# Altium schematic symbol library chinook_lib_symbol_rotor.SchLib: 34 symbols
Pins are listed as number, name and electrical type; pins without a type are passive.

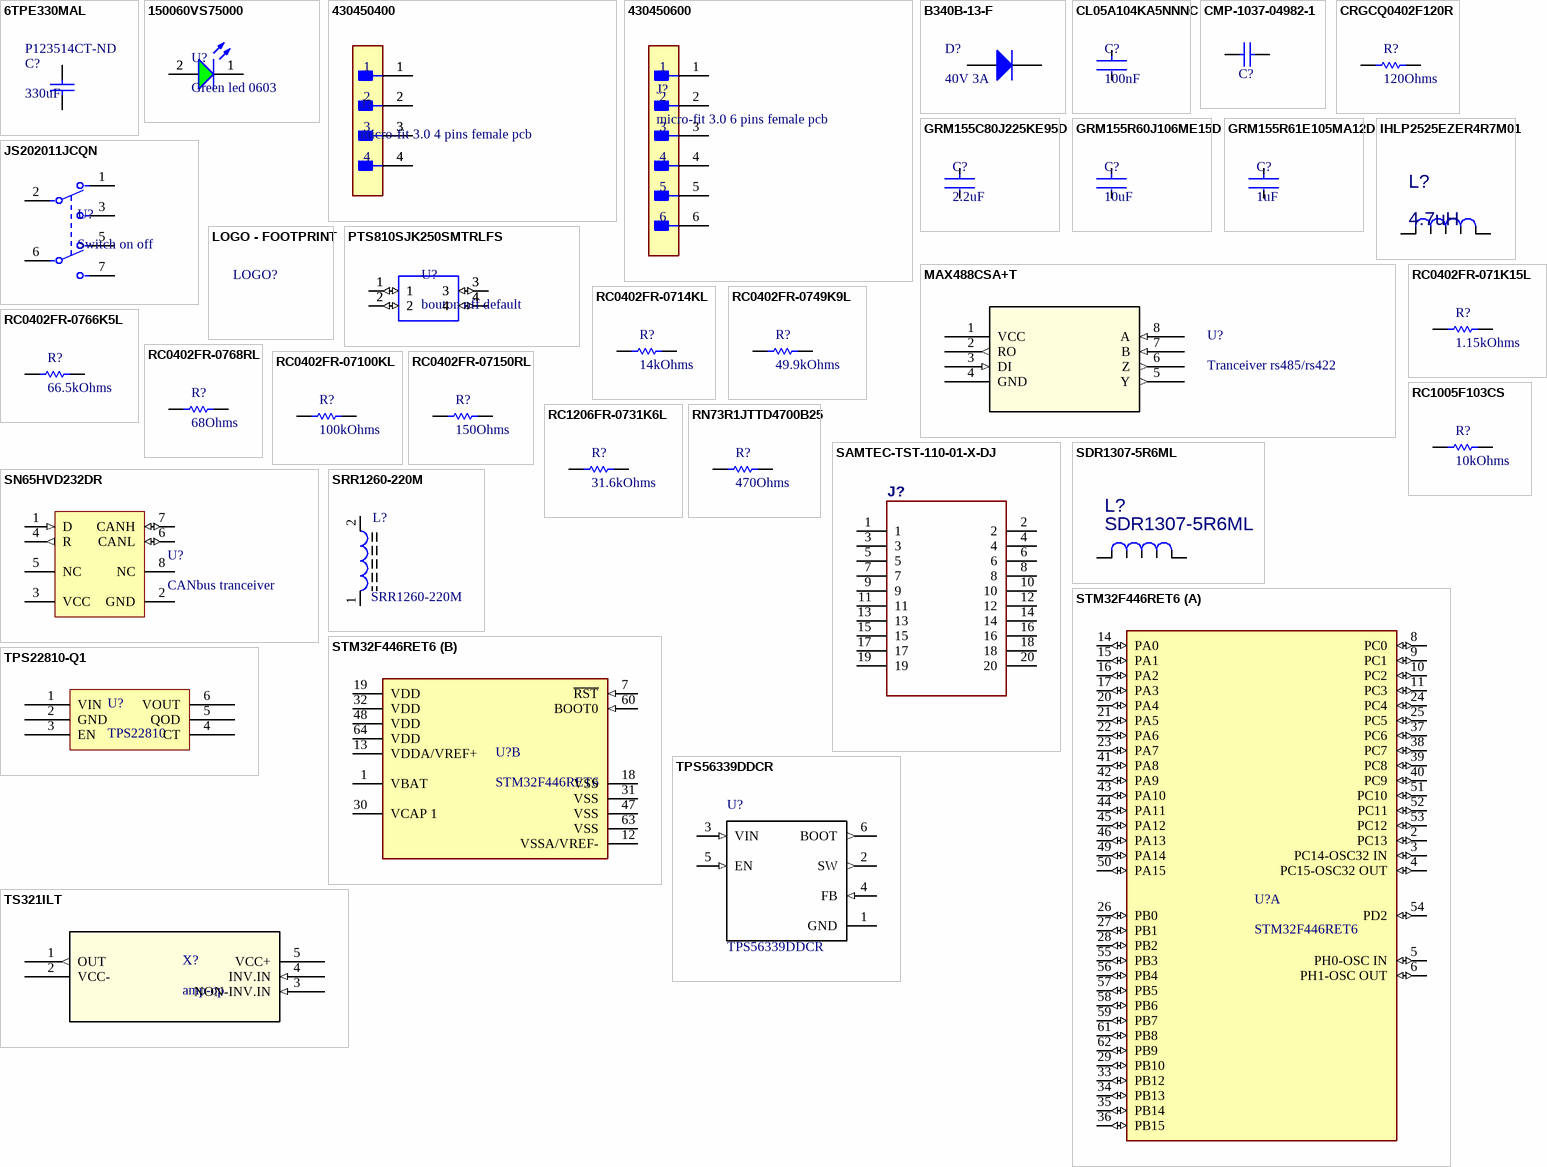
[diagram p0: symbols 6TPE330MAL to TS321ILT]

## 6TPE330MAL
designator C?, comment 330uF  Supplier Part Number 1: P123514CT-ND
Cap Tant Polymer 330uF 6.3VDC D3L CASE 20% (7.3 X 4.3 X 2.8mm) SMD 7343 0.025 Ohm 105C Embossed T/R; Manufacturer 1: Panasonic; Manufacturer Part Number 1: 6TPE330MAL; Voltage Rating: 6.3V; ESR (Equivalent Series Resistance): 25mR; Ripple Current: 2.4A; Leakage Current: 207.9uA; Polarity: Polar; Dissipation Factor: 10%; Supplier 1: Digi-Key; Stock 1: 2448; Pricing 1: 1=1.54000, 10=1.21400, 100=0.91080, 500=0.68816, 1000=0.60720 (USD); RoHS: Yes; Mount: Surface Mount; Case/Package: 2917; Case Code (Metric): 7343; Case Code (Imperial): 2917; Min Operating Temperature: -55°C; Max Operating Temperature: 105°C; Package Quantity: 2500; Packaging: Tape and Reel; Capacitance: 330uF; Tolerance: 20%; Voltage Rating (DC): 6.3V; Termination: SMD/SMT; Voltage: 6.3V; Features: General Purpose; Length: 7.3mm; Height: 2.8mm; Width: 0.169inch; Height - Seated (Max): 0.118inch; Depth: 4.3mm; Radiation Hardening: No; REACH SVHC: No SVHC; Lead Free: Lead Free; ComponentLink1URL: https://datasheet.ciiva.com/22745/1734363-22745356.pdf?src-supplier=Element14; ComponentLink1Description: https://datasheet.ciiva.com/22745/1734363-22745356.pdf?src-supplier=Element14; ComponentLink2URL: https://datasheet.ciiva.com/25785/1734363-25785996.pdf?src-supplier=Farnell; ComponentLink2Description: https://datasheet.ciiva.com/25785/1734363-25785996.pdf?src-supplier=Farnell
footprint CAP_TPE_D3L (Molded Capacitor, 2-Leads, Body 7.30x4.30mm, IPC Medium Density)
pins: 1, 2

## 150060VS75000
designator U?, comment Green led 0603
WURTH ELEKTRONIK - 150060VS75000 - LED, Green, SMD, 0603, 30 mA, 2 V, 570 nm; Manufacturer: Wurth Electronics; Lens Color: Colorless; Luminous Intensity: 40mcd; Viewing Angle: 140°; Forward Voltage: 2V; Lens Style: Rectangular,Flat; Forward Current: 20mA; Dominant Wavelength: 570nm; Lens Transparency: Clear; Power Rating: 72mW; Reverse Voltage (DC): 5V; Lens Size: 0.7mm; Supplier: Digikey; Supplier Part Number: 732-4980-1-ND; Manufacturer Part Number: 150060VS75000; RoHS: Yes; Category: LEDs; Stock: 75022; Pricing: 1=0.15, 50=0.142, 100=0.122, 500=0.105, 1000=0.10125 (USD); Mounting Technology: Surface Mount; Case/Package: 0603; Pins: 2; Color: Green; Case Code (Metric): 1608; Case Code (Imperial): 0603; Weight: 0.000882oz; Min Operating Temperature: -40°C; Max Operating Temperature: 85°C; Package Quantity: 4000; Packaging: Cut Tape; Test Current: 20mA; Illumination Color: Green; Series: WL-SMCW; Max Reverse Voltage (DC): 5V; Power Dissipation: 72mW; Reverse Voltage: 5V; Length: 1.6mm; Width: 0.8mm; Height: 0.8mm; RoHS Compliant: Yes; Reach SVHC Compliant: 4187SVHC; ComponentLink1URL: https://datasheet.ciiva.com/29562/150060vs75000-29562919.pdf?src-supplier=Digikey; ComponentLink1Description: https://datasheet.ciiva.com/29562/150060vs75000-29562919.pdf?src-supplier=Digikey
footprint WL-SMCW_0603_150060xx75000 (SMD Mono-color Chip LED, body 1.6x0.8mm)
pins: 1 K, 1 K, 2 A, 2 A

## 430450400
designator J?, comment micro-fit 3.0 4 pins female pcb
MOLEX 43045-0400 Header, Dual Row, 90°, 4p, Tin Plating Snap-in Peg PCB Lock, GW Compatible; Plating: 154ConductorMaterial; Number of Contacts: 4; Contact Resistance: 10mR; Max Voltage Rating (AC): 250V; Current Rating: 5A; Voltage Rating: 600V; Gender: Male; Max Voltage Rating (DC): 250.25kV; Pitch: 3mm; Row Spacing: 0.118inch; Approvals: UL,CSA,TUV; Glow Wire Compliant: 15Compliance; Supplier: Digikey; Supplier Part Number: WM1814-ND; Manufacturer: Molex; Manufacturer Part Number: 43045-0400; RoHS: Yes; Category: Headers and Wire Housings; Stock: 4691; Pricing: 1=1.51, 10=1.289, 80=1.065, 2232=0.8128, 6696=0.74553, 11160=0.72872 (USD); Mounting Technology: Through Hole; Case/Package: 101Case; Contact Plating: Tin; Contact Material: Brass,Tin; Color: Black; Housing Color: Black; Housing Material: Thermoplastic; Material: Polyester; Min Operating Temperature: -40°C; Max Operating Temperature: 105°C; Number of Rows: 2; Termination: Solder; Packaging: Tray; Fastening Type: Ramp; Number of Positions: 4; Orientation: Right Angle; Contact Gender: Male; Series: Micro-Fit 3.0™ 43045; Contact Type: Male Pin; Number of Circuits: 4; Number of Poles: 4; Voltage Rating (AC): 250V; Working Voltage: 250V; Voltage Rating (DC): 250V; Diameter: 3mm; Length: 10.15mm; Width: 9.9mm; Lead Pitch: 3mm; Depth: 12.2mm; Radiation Hardening: No; RoHS Compliant: Yes; Reach SVHC Compliant: Unknown; Flammability Rating: 5813Flammability; Halogen Free: 5696HalogenFree; Lead Free: 5697LeadFree; ComponentLink1URL: https://datasheet.ciiva.com/11746/0900766b80027348-11746988.pdf?src-supplier=Rs; ComponentLink1Description: https://datasheet.ciiva.com/11746/0900766b80027348-11746988.pdf?src-supplier=Rs
footprint FP-43045-0400-MFG
pins: 1, 1, 2, 2, 3, 3, 4, 4

## 430450600
designator J?, comment micro-fit 3.0 6 pins female pcb
Connector Wire to Board Header 6 Position 3mm Solder Right Angle Thru-Hole Tray; Manufacturer: Molex; Manufacturer Part Number: 43045-0600; Plating: 154ConductorMaterial; Contact Resistance: 10mR; Voltage Rating: 250V; Current Rating: 5A; Max Voltage Rating (DC): 250.25kV; Gender: Male; Number of Positions: 6; Insulation Resistance: 1GR; Approvals: UL,CSA,TUV; Glow Wire Compliant: 15Compliance; Supplier: Digikey; Supplier Part Number: WM1815-ND; RoHS: Yes; Category: Headers and Wire Housings; Stock: 3053; Pricing: 1=2.2, 10=1.875, 80=1.54863, 1728=1.18185, 5184=1.08404 (USD); Mounting Technology: Through Hole; Case/Package: SMC; Contact Material: Brass,Tin; Contact Plating: Tin; Housing Color: Black; Housing Material: Thermoplastic; Color: Black; Material: 4301ConductorMaterial; Min Operating Temperature: -40°C; Max Operating Temperature: 105°C; Number of Rows: 2; Packaging: Tray; Termination: Solder; Orientation: Right Angle; Package Quantity: 1728; Max Current Rating: 5A; Number of Circuits: 6; Number of Contacts: 6; Series: 43045; Voltage Rating (DC): 250V; Diameter: 3mm; Length: 13.15mm; Height: 8.77mm; Pitch: 3mm; Depth: 12.2mm; Row Spacing: 3mm; Radiation Hardening: No; Flammability Rating: UL94 V-0; RoHS Compliant: Yes; Reach SVHC Compliant: Unknown; Halogen Free: 5696HalogenFree; Lead Free: 5697LeadFree; Parameter 1: *
footprint FP-0430450600-MFG
pins: 1, 2, 3, 4, 5, 6

## B340B-13-F
designator D?, comment 40V 3A
DIODE SCHOTTKY 40V 3A SMB; Manufacturer 1: Diodes; Manufacturer Part Number 1: B340B-13-F; Element Configuration: Single; Peak Reverse Current: 500uA; Forward Voltage: 500mV; Peak Non-Repetitive Surge Current: 100A; Polarity: Standard; Capacitance: 250pF; Supplier 1: Digi-Key; Stock 1: 44365; Pricing 1: 1=0.48000, 10=0.39100, 100=0.26620, 500=0.19968, 1000=0.14976 (USD); RoHS: Yes; Mount: Surface Mount; Case/Package: SMB; Number of Pins: 2; Weight: 0.00328oz; Min Operating Temperature: -55°C; Max Operating Temperature: 150°C; Forward Current: 3A; Max Repetitive Reverse Voltage (Vrrm): 40V; Packaging: Tape and Reel; Max Forward Surge Current (Ifsm): 100A; Package Quantity: 3000; Average Rectified Current: 3A; Termination: SMD/SMT; Voltage Rating (DC): 40V; Current Rating: 3A; Output Current: 3A; Max Reverse Voltage (DC): 40V; Length: 4.57mm; Height: 2.5mm; Width: 3.94mm; Radiation Hardening: No; REACH SVHC: No SVHC; Lead Free: Lead Free; ComponentLink1URL: https://datasheet.ciiva.com/26949/getdatasheetpartid-110980-26949353.pdf?src-supplier=Verical; ComponentLink1Description: https://datasheet.ciiva.com/26949/getdatasheetpartid-110980-26949353.pdf?src-supplier=Verical; ComponentLink2URL: https://datasheet.ciiva.com/25946/ds30924-25946951.pdf?src-supplier=Avnet+Europe; ComponentLink2Description: https://datasheet.ciiva.com/25946/ds30924-25946951.pdf?src-supplier=Avnet+Europe; ComponentLink3URL: https://datasheet.ciiva.com/16203/ds30924-16203765.pdf?src-supplier=Future+Electronics; ComponentLink3Description: https://datasheet.ciiva.com/16203/ds30924-16203765.pdf?src-supplier=Future+Electronics; Supplier Part Number 1: B340B-FDICT-ND
footprint DIODE_SCHOTTKY_SMB (Molded Capacitor, 2-Leads, Body 4.31x3.62mm, IPC Medium Density)
pins: 1 A, 2 K

## CL05A104KA5NNNC
designator C?, comment 100nF
Multilayer Ceramic Capacitor, 0.1 uF, 25 V, ± 10%, X5R, 0402 [1005 Metric]; Manufacturer: Samsung; Manufacturer Part Number: CL05A104KA5NNNC; Material: 4241ConductorMaterial; Voltage Rating: 25V; Supplier: Digikey; Supplier Part Number: 1276-1043-1-ND; RoHS: Yes; Category: Ceramic Capacitors; Stock: 11930039; Pricing: 1=0.1, 10=0.01, 50=0.0054, 100=0.0042, 500=0.00318, 1000=0.0025, 2500=0.00227, 5000=0.00209 (USD); Mounting Technology: Surface Mount; Case/Package: 0402; Case Code (Metric): 1005; Case Code (Imperial): 0402; Min Operating Temperature: -55°C; Max Operating Temperature: 85°C; Value: 100nF; Packaging: Tape and Reel; Tolerance: 10%; Dielectric: X5R; Voltage: 25V; Series: CL; Construction: Flat; Package Quantity: 1; Voltage Rating (DC): 25V; Length: 1mm; Width: 0.02inch; Height: 0.5mm; Depth: 0.5mm; Thickness: 0.022inch; Radiation Hardening: No; RoHS Compliant: Yes; Lead Free: Lead Free; ComponentLink1URL: https://datasheet.ciiva.com/25802/cl05a104ka5nnnc-25802704.pdf?src-supplier=Digikey; ComponentLink1Description: https://datasheet.ciiva.com/25802/cl05a104ka5nnnc-25802704.pdf?src-supplier=Digikey; ComponentLink2URL: https://datasheet.ciiva.com/16437/cl05a104ka5nnnc-16437369.pdf?src-supplier=Future+Electronics; ComponentLink2Description: https://datasheet.ciiva.com/16437/cl05a104ka5nnnc-16437369.pdf?src-supplier=Future+Electronics; ComponentLink3URL: https://datasheet.ciiva.com/26838/getdatasheetpartid-357412-26838142.pdf?src-supplier=Verical; ComponentLink3Description: https://datasheet.ciiva.com/26838/getdatasheetpartid-357412-26838142.pdf?src-supplier=Verical; ComponentLink4URL: https://datasheet.ciiva.com/26309/mlcc-catalogdownload2013-eng-26309014.pdf?src-supplier=Distrelec; ComponentLink4Description: https://datasheet.ciiva.com/26309/mlcc-catalogdownload2013-eng-26309014.pdf?src-supplier=Distrelec
footprint FP-GRM155-0_15-MFG
pins: 1, 2

## CMP-1037-04982-1
designator C?, comment CAP 10uF 50V 1206(3216)  (value not drawn)
CAP 10uF 50V ±10% 1206 (3216 Metric) Thickness 1.9mm SMD; Manufacturer: TDK; Manufacturer Part Number: C3216X5R1H106K; Case-EIA: 1206; Tolerance: Â±10%; Case-Metric: 3216; Technology: SMT; Max Thickness: 1.9 mm; Value: 10uF; Rated Voltage: 50 V
footprint CS-1206
pins: 1, 2
1 alternate drawing of the same symbol

## CRGCQ0402F120R
designator R?, comment 120Ohms
RES 120 OHM 1% 1/16W 0402; Supplier 1: Avnet; Supplier Part Number 1: 1-2176337-4
footprint FP-GRM155-0_15-MFG
pins: 1, 2

## GRM155C80J225KE95D
designator C?, comment 2.2uF
Cap Ceramic 2.2uF 6.3V X6S 10% Pad SMD 0402 105°C T/R; Manufacturer: Murata; Manufacturer Part Number: GRM155C80J225KE95D; Supplier: Digikey; Supplier Part Number: 490-10012-1-ND; RoHS: Yes; Category: Ceramic Capacitors; Stock: 6441444; Pricing: 1=0.1, 10=0.054, 50=0.031, 100=0.0241, 500=0.01814, 1000=0.01425, 2500=0.01296, 5000=0.01192 (USD); Mounting Technology: Surface Mount; Case/Package: 0402; Case Code (Metric): 1005; Material: Ceramic; Case Code (Imperial): 0402; Min Operating Temperature: -55°C; Max Operating Temperature: 105°C; Tolerance: 10%; Value: 2.2uF; Packaging: Cut Tape; Voltage Rating: 6.3V; Voltage Rating (DC): 6.3V; Series: GRM; Length: 0.039inch; Width: 0.02inch; Height: 0.3mm; Thickness: 0.022inch; RoHS Compliant: Yes; ComponentLink1URL: http://search.murata.co.jp/Ceramy/image/img/A01X/G101/ENG/GRM155C80J225KE95-01.pdf?src-supplier=Digikey; ComponentLink1Description: http://search.murata.co.jp/Ceramy/image/img/A01X/G101/ENG/GRM155C80J225KE95-01.pdf?src-supplier=Digikey; ComponentLink2URL: http://search.murata.co.jp/Ceramy/image/img/A01X/partnumbering_e_01.pdf?src-supplier=Digikey; ComponentLink2Description: http://search.murata.co.jp/Ceramy/image/img/A01X/partnumbering_e_01.pdf?src-supplier=Digikey; ComponentLink3URL: https://datasheet.octopart.com/GRM155C80J225KE95D-Murata-datasheet-32479577.pdf?src-supplier=Future+Electronics; ComponentLink3Description: https://datasheet.octopart.com/GRM155C80J225KE95D-Murata-datasheet-32479577.pdf?src-supplier=Future+Electronics; ComponentLink4URL: https://datasheet.octopart.com/GRM155C80J225KE95D-Murata-datasheet-165579666.pdf?src-supplier=TME; ComponentLink4Description: https://datasheet.octopart.com/GRM155C80J225KE95D-Murata-datasheet-165579666.pdf?src-supplier=TME
footprint FP-GRM155-0_15-MFG
pins: 1, 2

## GRM155R60J106ME15D
designator C?, comment 10uF
Multilayer Ceramic Capacitor, 10 uF, 6.3 V, ± 20%, X5R, 0402 [1005 Metric]; Manufacturer: Murata; Manufacturer Part Number: GRM155R60J106ME15D; Material: 4241ConductorMaterial; Voltage Rating: 6.3V; Supplier: Digikey; Supplier Part Number: 490-13238-1-ND; RoHS: Yes; Category: Ceramic Capacitors; Stock: 6215687; Pricing: 1=0.17, 10=0.11, 50=0.0696, 100=0.0557, 500=0.04022, 1000=0.03558, 2500=0.03404, 5000=0.03094 (USD); Mounting Technology: Surface Mount; Case/Package: 0402; Case Code (Metric): 1005; Case Code (Imperial): 0402; Min Operating Temperature: -55°C; Max Operating Temperature: 85°C; Packaging: Cut Tape; Value: 10uF; Tolerance: 20%; Voltage Rating (DC): 6.3V; Dielectric: X5R; Series: GRM; Length: 0.039inch; Width: 0.02inch; Height: 650um; Thickness: 0.026inch; RoHS Compliant: Yes; ComponentLink1URL: https://datasheet.octopart.com/GRM155R60J106ME15D-Murata-datasheet-149522992.pdf?src-supplier=Newark; ComponentLink1Description: https://datasheet.octopart.com/GRM155R60J106ME15D-Murata-datasheet-149522992.pdf?src-supplier=Newark; ComponentLink2URL: https://www.murata.com/~/media/webrenewal/support/library/catalog/products/capacitor/mlcc/c02e.ashx?la=en-us&src-supplier=Digikey; ComponentLink2Description: https://www.murata.com/~/media/webrenewal/support/library/catalog/products/capacitor/mlcc/c02e.ashx?la=en-us&src-supplier=Digikey; ComponentLink3URL: https://datasheet.octopart.com/GRM155R60J106ME15D-Murata-datasheet-165579666.pdf?src-supplier=TME; ComponentLink3Description: https://datasheet.octopart.com/GRM155R60J106ME15D-Murata-datasheet-165579666.pdf?src-supplier=TME
footprint FP-GRM155-0_15-MFG
pins: 1, 2

## GRM155R61E105MA12D
designator C?, comment 1uF
Multilayer Ceramic Capacitor, 1 uF, 25 V, ± 20%, X5R, 0402 [1005 Metric]; Manufacturer: Murata; Manufacturer Part Number: GRM155R61E105MA12D; Voltage Rating: 25V; Supplier: Digikey; Supplier Part Number: 490-10018-1-ND; RoHS: Yes; Category: Ceramic Capacitors; Stock: 2496490; Pricing: 1=0.1, 10=0.066, 50=0.0376, 100=0.0292, 500=0.022, 1000=0.01728, 2500=0.01571, 5000=0.01445 (USD); Mounting Technology: Surface Mount; Case/Package: 0402; Case Code (Metric): 1005; Case Code (Imperial): 0402; Weight: 0.000212oz; Min Operating Temperature: -55°C; Max Operating Temperature: 85°C; Value: 1uF; Packaging: Tape and Reel; Tolerance: 20%; Dielectric: X5R; Termination: SMD/SMT; Voltage Rating (DC): 25V; Package Quantity: 10000; Series: GRM; Length: 0.039inch; Width: 0.02inch; Height: 0.5mm; Thickness: 0.022inch; RoHS Compliant: Yes; ComponentLink1URL: http://www.mouser.com/ds/2/281/c02e-2905.pdf?src-supplier=Mouser; ComponentLink1Description: http://www.mouser.com/ds/2/281/c02e-2905.pdf?src-supplier=Mouser; ComponentLink2URL: https://datasheet.octopart.com/GRM155R61E105MA12D-Murata-datasheet-149523023.pdf?src-supplier=Newark; ComponentLink2Description: https://datasheet.octopart.com/GRM155R61E105MA12D-Murata-datasheet-149523023.pdf?src-supplier=Newark; ComponentLink3URL: https://datasheet.octopart.com/GRM155R61E105MA12D-Murata-datasheet-22122223.pdf?src-supplier=Future+Electronics; ComponentLink3Description: https://datasheet.octopart.com/GRM155R61E105MA12D-Murata-datasheet-22122223.pdf?src-supplier=Future+Electronics; ComponentLink4URL: http://search.murata.co.jp/Ceramy/image/img/A01X/G101/ENG/GRM155R61E105MA12-01.pdf?src-supplier=Digikey; ComponentLink4Description: http://search.murata.co.jp/Ceramy/image/img/A01X/G101/ENG/GRM155R61E105MA12-01.pdf?src-supplier=Digikey
footprint FP-GRM155-0_15-MFG
pins: 1, 2

## IHLP2525EZER4R7M01
designator L?, comment 4.7uH
FIXED IND 4.7UH 6.5A 30.3MOHM SM; Manufacturer_Part_Number: SDR1307-5R6ML; C: Copyright (C) 2015 Accelerated Designs. All rights reserved; Vendor: Bourns Electronics; Built_By: EMA_UL_Team; Supplier 1: Mouser; Supplier Part Number 1: 70-IHLP2525EZER4R7M0
footprint IHLP2525EZER4R7M01
pins: 1, 2
1 alternate drawing of the same symbol

## JS202011JCQN
designator U?, comment Switch on off
SWITCH SLIDE DPDT 300mA 6V; Manufacturer: ITT C&K; Manufacturer Part Number: JS202011JCQN; Actuator Material: Nylon,Polyamide,PA46; Switch Function: On-On; Actuator Type: Standard; Switch Travel: 2mm; Electrical Life: 5000Cycles; Supplier: Digikey; Supplier Part Number: CKN10723CT-ND; RoHS: No; Category: Slide Switches; Stock: 20641; Pricing: 1=0.8, 10=0.769, 25=0.74, 100=0.6422, 250=0.58596, 500=0.54452 (USD); Mounting Technology: Surface Mount; Contact Material: Copper Alloy; Contact Plating: Silver; Min Operating Temperature: -40°C; Max Operating Temperature: 85°C; Throw Configuration: DPDT; Packaging: Cut Tape; Voltage Rating (DC): 6V; Series: JS; Actuator Length: 2mm; ComponentLink1URL: http://www.farnell.com/datasheets/2674788.pdf?src-supplier=Farnell; ComponentLink1Description: http://www.farnell.com/datasheets/2674788.pdf?src-supplier=Farnell; ComponentLink2URL: http://www.farnell.com/datasheets/2674788.pdf?src-supplier=Element14; ComponentLink2Description: http://www.farnell.com/datasheets/2674788.pdf?src-supplier=Element14; ComponentLink3URL: https://datasheet.octopart.com/JS202011JCQN-C%26K-Components-datasheet-67873653.pdf?src-supplier=Newark; ComponentLink3Description: https://datasheet.octopart.com/JS202011JCQN-C%26K-Components-datasheet-67873653.pdf?src-supplier=Newark; ComponentLink4URL: http://www.farnell.com/datasheets/2674788.pdf?src-supplier=Newark; ComponentLink4Description: http://www.farnell.com/datasheets/2674788.pdf?src-supplier=Newark; ComponentLink5URL: https://www.ckswitches.com/media/1422/js.pdf?src-supplier=Digikey; ComponentLink5Description: https://www.ckswitches.com/media/1422/js.pdf?src-supplier=Digikey; ComponentLink6URL: https://datasheet.octopart.com/JS202011JCQN-C%26K-Components-datasheet-138126065.pdf?src-supplier=TME; ComponentLink6Description: https://datasheet.octopart.com/JS202011JCQN-C%26K-Components-datasheet-138126065.pdf?src-supplier=TME
footprint FP-JS202011JCQN-MFG
pins: 1, 2 1 C, 3, 5, 6 2 C, 7

## LOGO - FOOTPRINT
designator LOGO?, comment VOTRE NOM DE LOGO  (value not drawn)
footprint LOGO-CHINOOK
footprint LOGO-Fanard

## MAX488CSA+T
designator U?, comment Tranceiver rs485/rs422
MAX488 Series 0.25 Mbps 12 V Full Duplex SMT RS 485 Transceiver - SOIC-8; Manufacturer: Maxim; Manufacturer Part Number: MAX488CSA+T; Number of Receivers: 1; Operating Supply Voltage: 5V; Logic Function: Transceiver,Receiver; Data Rate: 250Kbps; Supply Current: 250uA; Supplier: Digikey; Supplier Part Number: MAX488CSA+TCT-ND; RoHS: Yes; Category: Buffers, Drivers and Transceivers; Stock: 8351; Pricing: 1=4.22, 10=3.788, 25=3.5808, 100=3.1034, 250=2.9442, 500=2.64184, 1000=2.22805 (USD); Mounting Technology: Surface Mount; Case/Package: SOIC; Min Operating Temperature: 0°C; Max Operating Temperature: 70°C; Packaging: Tape and Reel; Number of Transmitters: 1; Number of Drivers: 1; Number of Transceivers: 1; Series: -; Package Quantity: 2500; Radiation Hardening: No; Lead Free: Lead Free; RoHS Compliant: Yes; ComponentLink1URL: https://datasheet.ciiva.com/14430/max1487-max491-14430333.pdf?src-supplier=Avnet; ComponentLink1Description: https://datasheet.ciiva.com/14430/max1487-max491-14430333.pdf?src-supplier=Avnet; ComponentLink2URL: https://datasheet.ciiva.com/14430/max1487-max491-14430886.pdf?src-supplier=Avnet; ComponentLink2Description: https://datasheet.ciiva.com/14430/max1487-max491-14430886.pdf?src-supplier=Avnet; ComponentLink3URL: https://datasheet.ciiva.com/1774/max1487-max491-1774524.pdf?src-supplier=Digikey; ComponentLink3Description: https://datasheet.ciiva.com/1774/max1487-max491-1774524.pdf?src-supplier=Digikey
footprint 21-0041_S8+2_MXM
footprint 21-0041_S8+2_MXM-L
footprint 21-0041_S8+2_MXM-M
pins: 1 VCC (power), 2 RO (out), 3 DI (in), 4 GND (power), 5 Y (out), 6 Z (out), 7 B (in), 8 A (in)

## PTS810SJK250SMTRLFS
designator U?, comment bouton off default
Switch Tactile N.O. SPST Button J-Bend 0.05A 16VDC 50000Cycle 2.55N SMD T/R; Manufacturer: ITT C&K; Manufacturer Part Number: PTS810SJK250SMTRLFS; Mechanical Life: 50000Cycles; Operating Force: 260gf; Current Rating: 50mA; Voltage Rating (DC): 16V; Illumination Type: Non-Illuminated; Switch Travel: 0.15mm; Switch Function: Off-Mom; Supplier: Digikey; Supplier Part Number: CKN10503CT-ND; RoHS: Yes; Category: Tactile Switches; Stock: 151502; Pricing: 1=0.34, 10=0.325, 25=0.306, 100=0.2657, 250=0.24104, 500=0.22422, 1000=0.2018 (USD); Mounting Technology: Surface Mount; Case/Package: SMD/SMT; Color: White; Contact Plating: Silver; Min Operating Temperature: -40°C; Max Operating Temperature: 85°C; Throw Configuration: SPST; Packaging: Tape and Reel; Package Quantity: 2900; Series: PTS810; Lead Free: Lead Free; RoHS Compliant: Yes; ComponentLink1URL: https://datasheet.ciiva.com/18514/pts810-4mar13-18514062.pdf?src-supplier=Digikey; ComponentLink1Description: https://datasheet.ciiva.com/18514/pts810-4mar13-18514062.pdf?src-supplier=Digikey; ComponentLink2URL: https://datasheet.ciiva.com/18514/pts810-4mar13-18514063.pdf?src-supplier=Digikey; ComponentLink2Description: https://datasheet.ciiva.com/18514/pts810-4mar13-18514063.pdf?src-supplier=Digikey; ComponentLink3URL: https://datasheet.ciiva.com/18514/pts810-4mar13-18514061.pdf?src-supplier=Digikey; ComponentLink3Description: https://datasheet.ciiva.com/18514/pts810-4mar13-18514061.pdf?src-supplier=Digikey
footprint PTS810SJG250SMTRLFS
pins: 1 (io), 1 (io), 2 (io), 2 (io), 3 (io), 3 (io), 4 (io), 4 (io)

## RC0402FR-071K15L
designator R?, comment 1.15kOhms
SMD Chip Resistor, 1.15 kOhm, ± 1%, 63 mW, 0402 [1005 Metric], Thick Film, General Purpose; Manufacturer: Yageo; Manufacturer Part Number: RC0402FR-071K15L; Value: 1.15kR; Temperature Coefficient: 100ppm/°C; Power Rating: 62.5mW; Voltage Rating: 50V; Max Power Dissipation: 63mW; Supplier: Digikey; Supplier Part Number: YAG3033CT-ND; RoHS: Yes; Category: Chip SMD Resistors; Stock: 290462; Pricing: 1=0.1, 10=0.015, 50=0.0088, 100=0.0073, 500=0.00488, 1000=0.00417, 5000=0.00297 (USD); Case/Package: 0402; Contact Plating: Tin,Lead; Case Code (Imperial): 0402; Case Code (Metric): 1005; Min Operating Temperature: -55°C; Max Operating Temperature: 155°C; Tolerance: 1%; Packaging: Tape and Reel; Number of Terminations: 2; Termination: SMD/SMT; Voltage Rating (DC): 50V; Features: Moisture Resistant; Series: RC; Construction: Rectangular; Length: 1mm; Width: 0.5mm; Height: 0.016inch; Depth: 0.5mm; Military Standard: Not; Lead Free: Lead Free; RoHS Compliant: Yes; ComponentLink1URL: https://datasheet.ciiva.com/8895/pyu-rc0402-51-rohs-l-6-8895884.pdf?src-supplier=Avnet; ComponentLink1Description: https://datasheet.ciiva.com/8895/pyu-rc0402-51-rohs-l-6-8895884.pdf?src-supplier=Avnet; ComponentLink2URL: https://datasheet.ciiva.com/26829/getdatasheetpartid-326427-26829948.pdf?src-supplier=Verical; ComponentLink2Description: https://datasheet.ciiva.com/26829/getdatasheetpartid-326427-26829948.pdf?src-supplier=Verical
footprint FP-GRM155-0_15-MFG
pins: 1, 2

## RC0402FR-0714KL
designator R?, comment 14kOhms
RES 14K OHM 1% 1/16W 0402; Supplier 1: Future Electronics; Supplier Part Number 1: 5614672
footprint FP-GRM155-0_15-MFG
pins: 1, 2

## RC0402FR-0749K9L
designator R?, comment 49.9kOhms
RES 49.9K OHM 1% 1/16W 0402; Supplier 1: Future Electronics; Supplier Part Number 1: 3276235
footprint FP-GRM155-0_15-MFG
pins: 1, 2

## RC0402FR-0766K5L
designator R?, comment 66.5kOhms
SMD Chip Resistor, 66.5 kOhm, ± 1%, 63 mW, 0402 [1005 Metric], Thick Film, General Purpose; Manufacturer: Yageo; Manufacturer Part Number: RC0402FR-0766K5L; Value: 66.5kR; Temperature Coefficient: 100ppm/°C; Power Rating: 62.5mW; Voltage Rating: 50V; Max Power Dissipation: 63mW; Supplier: Digikey; Supplier Part Number: YAG3209CT-ND; RoHS: Yes; Category: Chip SMD Resistors; Stock: 358270; Pricing: 1=0.1, 10=0.015, 50=0.0088, 100=0.0073, 500=0.00488, 1000=0.00417, 5000=0.00297 (USD); Case/Package: 0402; Contact Plating: Tin,Matte; Case Code (Imperial): 0402; Case Code (Metric): 1005; Min Operating Temperature: -55°C; Max Operating Temperature: 155°C; Tolerance: 1%; Packaging: Tape and Reel; Number of Terminations: 2; Termination: SMD/SMT; Features: Moisture Resistant; Series: RC; Length: 0.039inch; Width: 0.5mm; Height: 0.016inch; Lead Free: Lead Free; RoHS Compliant: Yes; ComponentLink1URL: https://datasheet.ciiva.com/8888/pyu-rc0402-51-rohs-l-6-8888485.pdf?src-supplier=Avnet; ComponentLink1Description: https://datasheet.ciiva.com/8888/pyu-rc0402-51-rohs-l-6-8888485.pdf?src-supplier=Avnet
footprint FP-GRM155-0_15-MFG
pins: 1, 2

## RC0402FR-0768RL
designator R?, comment 68Ohms
SMD Chip Resistor, 68 Ohm, ± 1%, 63 mW, 0402 [1005 Metric], Thick Film, General Purpose; Manufacturer: Yageo; Manufacturer Part Number: RC0402FR-0768RL; Value: 68R; Power Rating: 63mW; Voltage Rating: 50V; Temperature Coefficient: 100ppm/°C; Supplier: Digikey; Supplier Part Number: 311-68.0LRCT-ND; RoHS: Yes; Category: Chip SMD Resistors; Stock: 982905; Pricing: 1=0.1, 10=0.015, 50=0.0088, 100=0.0073, 500=0.00488, 1000=0.00417, 5000=0.00297 (USD); Case/Package: 0402; Case Code (Metric): 1005; Case Code (Imperial): 0402; Min Operating Temperature: -55°C; Max Operating Temperature: 155°C; Tolerance: 1%; Package Quantity: 1; Packaging: Tape and Reel; Resistor Type: Thick Film; Number of Terminations: 2; Termination: SMD/SMT; Max Power Dissipation: 63mW; Features: Moisture Resistant; Series: RC; Resistance Tolerance: 1%; Construction: Rectangular; Voltage Rating (AC): 50V; Length: 0.039inch; Width: 0.02inch; Height: 0.016inch; Depth: 0.5mm; Reach SVHC Compliant: No; Military Standard: Not; Lead Free: Lead Free; RoHS Compliant: Yes; ComponentLink1URL: https://datasheet.ciiva.com/2453/pyu-r-int-thick-7-2453524.pdf?src-supplier=Digikey; ComponentLink1Description: https://datasheet.ciiva.com/2453/pyu-r-int-thick-7-2453524.pdf?src-supplier=Digikey; ComponentLink2URL: https://datasheet.ciiva.com/2453/pyu-r-int-thick-7-2453525.pdf?src-supplier=Digikey; ComponentLink2Description: https://datasheet.ciiva.com/2453/pyu-r-int-thick-7-2453525.pdf?src-supplier=Digikey; ComponentLink3URL: https://datasheet.ciiva.com/2453/pyu-r-int-thick-7-2453523.pdf?src-supplier=Digikey; ComponentLink3Description: https://datasheet.ciiva.com/2453/pyu-r-int-thick-7-2453523.pdf?src-supplier=Digikey; ComponentLink4URL: https://datasheet.ciiva.com/5558/pyu-rc0402-51-rohs-l-6-r-5558023.pdf?src-supplier=Mouser; ComponentLink4Description: https://datasheet.ciiva.com/5558/pyu-rc0402-51-rohs-l-6-r-5558023.pdf?src-supplier=Mouser; ComponentLink5URL: https://datasheet.ciiva.com/7850/1018594-7850074.pdf?src-supplier=Element14; ComponentLink5Description: https://datasheet.ciiva.com/7850/1018594-7850074.pdf?src-supplier=Element14; ComponentLink6URL: https://datasheet.ciiva.com/7850/1018594-7850075.pdf?src-supplier=Element14; ComponentLink6Description: https://datasheet.ciiva.com/7850/1018594-7850075.pdf?src-supplier=Element14; ComponentLink7URL: https://datasheet.ciiva.com/15189/getdatasheetpartid-325392-15189501.pdf?src-supplier=Verical; ComponentLink7Description: https://datasheet.ciiva.com/15189/getdatasheetpartid-325392-15189501.pdf?src-supplier=Verical
footprint FP-GRM155-0_15-MFG
pins: 1, 2

## RC0402FR-07100KL
designator R?, comment 100kOhms
SMD Chip Resistor, 100 kOhm, ± 1%, 63 mW, 0402 [1005 Metric], Thick Film, General Purpose; Manufacturer: Yageo; Manufacturer Part Number: RC0402FR-07100KL; Value: 100kR; Temperature Coefficient: 100ppm/°C; Power Rating: 63mW; Voltage Rating: 50V; Supplier: Digikey; Supplier Part Number: 311-100KLRCT-ND; RoHS: Yes; Category: Chip SMD Resistors; Stock: 21909209; Pricing: 1=0.1, 10=0.015, 50=0.0088, 100=0.0073, 500=0.00488, 1000=0.00417, 5000=0.00297 (USD); Case/Package: 0402; Case Code (Metric): 1005; Case Code (Imperial): 0402; Min Operating Temperature: -55°C; Max Operating Temperature: 155°C; Resistor Type: Thick Film; Tolerance: 1%; Packaging: Tape and Reel; Package Quantity: 1; Number of Terminations: 2; Termination: SMD/SMT; Max Power Dissipation: 63mW; Features: Moisture Resistant; Series: RC; Resistance Tolerance: 1%; Construction: Rectangular; Technology: THICK FILM; Voltage Rating (AC): 50V; Length: 0.039inch; Width: 0.02inch; Height: 0.016inch; Depth: 0.5mm; Reach SVHC Compliant: No; RoHS Compliant: Yes; Lead Free: 5697LeadFree; Military Standard: Not; ComponentLink1URL: https://datasheet.ciiva.com/11819/0900766b80c66297-11819452.pdf?src-supplier=Rs; ComponentLink1Description: https://datasheet.ciiva.com/11819/0900766b80c66297-11819452.pdf?src-supplier=Rs; ComponentLink2URL: https://datasheet.ciiva.com/22747/1018594-22747509.pdf?src-supplier=Element14; ComponentLink2Description: https://datasheet.ciiva.com/22747/1018594-22747509.pdf?src-supplier=Element14; ComponentLink3URL: https://datasheet.ciiva.com/2453/pyu-r-int-thick-7-2453362.pdf?src-supplier=Digikey; ComponentLink3Description: https://datasheet.ciiva.com/2453/pyu-r-int-thick-7-2453362.pdf?src-supplier=Digikey; ComponentLink4URL: https://datasheet.ciiva.com/12667/pyu-rc0402-51-rohs-l-6-r-12667930.pdf?src-supplier=Mouser; ComponentLink4Description: https://datasheet.ciiva.com/12667/pyu-rc0402-51-rohs-l-6-r-12667930.pdf?src-supplier=Mouser; ComponentLink5URL: https://datasheet.ciiva.com/15189/getdatasheetpartid-323696-15189334.pdf?src-supplier=Verical; ComponentLink5Description: https://datasheet.ciiva.com/15189/getdatasheetpartid-323696-15189334.pdf?src-supplier=Verical; ComponentLink6URL: https://datasheet.ciiva.com/2453/pyu-r-int-thick-7-2453363.pdf?src-supplier=Digikey; ComponentLink6Description: https://datasheet.ciiva.com/2453/pyu-r-int-thick-7-2453363.pdf?src-supplier=Digikey; ComponentLink7URL: https://datasheet.ciiva.com/2453/pyu-r-int-thick-7-2453361.pdf?src-supplier=Digikey; ComponentLink7Description: https://datasheet.ciiva.com/2453/pyu-r-int-thick-7-2453361.pdf?src-supplier=Digikey
footprint FP-GRM155-0_15-MFG
pins: 1, 2

## RC0402FR-07150RL
designator R?, comment 150Ohms
SMD Chip Resistor, 150 Ohm, ± 1%, 63 mW, 0402 [1005 Metric], Thick Film, General Purpose; Manufacturer: Yageo; Manufacturer Part Number: RC0402FR-07150RL; Value: 150R; Power Rating: 63mW; Voltage Rating: 50V; Temperature Coefficient: 100ppm/°C; Supplier: Digikey; Supplier Part Number: 311-150LRCT-ND; RoHS: Yes; Category: Chip SMD Resistors; Stock: 5570890; Pricing: 1=0.1, 10=0.015, 50=0.0088, 100=0.0073, 500=0.00488, 1000=0.00417, 5000=0.00297 (USD); Case/Package: 0402; Case Code (Metric): 1005; Case Code (Imperial): 0402; Min Operating Temperature: -55°C; Max Operating Temperature: 155°C; Tolerance: 1%; Packaging: Tape and Reel; Package Quantity: 1; Resistor Type: Thick Film; Number of Terminations: 2; Termination: SMD/SMT; Max Power Dissipation: 63mW; Working Voltage: 50V; Features: Moisture Resistant; Series: RC; Resistance Tolerance: 1%; Construction: Rectangular; Technology: THICK FILM; Voltage Rating (AC): 50V; Length: 0.039inch; Width: 0.02inch; Height: 0.016inch; Depth: 0.5mm; Military Standard: Not; Lead Free: Lead Free; RoHS Compliant: Yes; Reach SVHC Compliant: Unknown; ComponentLink1URL: https://datasheet.ciiva.com/11808/0900766b80c66297-11808422.pdf?src-supplier=Rs; ComponentLink1Description: https://datasheet.ciiva.com/11808/0900766b80c66297-11808422.pdf?src-supplier=Rs; ComponentLink2URL: https://datasheet.ciiva.com/5558/pyu-rc0402-51-rohs-l-6-r-5558110.pdf?src-supplier=Mouser; ComponentLink2Description: https://datasheet.ciiva.com/5558/pyu-rc0402-51-rohs-l-6-r-5558110.pdf?src-supplier=Mouser
footprint FP-GRM155-0_15-MFG
pins: 1, 2

## RC1005F103CS
designator R?, comment 10kOhms
Res Thick Film 0402 10K Ohm 1% 1/16W ±100ppm/°C Molded SMD SMD T/R; Manufacturer: Samsung; Manufacturer Part Number: RC1005F103CS; Value: 10kR; Power Rating: 63mW; Voltage Rating: 50V; Supplier: Digikey; Supplier Part Number: 1276-3431-1-ND; RoHS: Yes; Category: Chip SMD Resistors; Stock: 15479730; Pricing: 1=0.1, 10=0.024, 50=0.0156, 100=0.0132, 500=0.00922, 1000=0.00803, 5000=0.00598 (USD); Case/Package: 0402; Case Code (Metric): 1005; Case Code (Imperial): 0402; Contact Plating: Tin; Min Operating Temperature: -55°C; Max Operating Temperature: 155°C; Tolerance: 1%; Packaging: Tape and Reel; Package Quantity: 1; Number of Terminations: 2; Max Power Dissipation: 63mW; Temperature Coefficient: 100ppm/°C; Features: Moisture Resistant; Series: RC; Construction: Rectangular; Voltage Rating (DC): 50V; Length: 0.039inch; Width: 0.02inch; Height: 0.016inch; Depth: 0.5mm; Thickness: 350um; Radiation Hardening: No; Military Standard: Not; RoHS Compliant: Yes; Lead Free: 5697LeadFree; ComponentLink1URL: https://datasheet.ciiva.com/15196/getdatasheetpartid-504789-15196214.pdf?src-supplier=Verical; ComponentLink1Description: https://datasheet.ciiva.com/15196/getdatasheetpartid-504789-15196214.pdf?src-supplier=Verical; ComponentLink2URL: https://datasheet.ciiva.com/16481/rcseries-16481007.pdf?src-supplier=Future+Electronics; ComponentLink2Description: https://datasheet.ciiva.com/16481/rcseries-16481007.pdf?src-supplier=Future+Electronics
footprint FP-GRM155-0_15-MFG
pins: 1, 2

## RC1206FR-0731K6L
designator R?, comment 31.6kOhms
RES 31.6K OHM 1% 1/4W 1206; Manufacturer: Yageo; Manufacturer Part Number: RC0402FR-0768RL; Value: 68R; Power Rating: 63mW; Voltage Rating: 50V; Temperature Coefficient: 100ppm/°C; Supplier: Digikey; Supplier Part Number: 311-68.0LRCT-ND; RoHS: Yes; Category: Chip SMD Resistors; Stock: 982905; Pricing: 1=0.1, 10=0.015, 50=0.0088, 100=0.0073, 500=0.00488, 1000=0.00417, 5000=0.00297 (USD); Case/Package: 0402; Case Code (Metric): 1005; Case Code (Imperial): 0402; Min Operating Temperature: -55°C; Max Operating Temperature: 155°C; Tolerance: 1%; Package Quantity: 1; Packaging: Tape and Reel; Resistor Type: Thick Film; Number of Terminations: 2; Termination: SMD/SMT; Max Power Dissipation: 63mW; Features: Moisture Resistant; Series: RC; Resistance Tolerance: 1%; Construction: Rectangular; Voltage Rating (AC): 50V; Length: 0.039inch; Width: 0.02inch; Height: 0.016inch; Depth: 0.5mm; Reach SVHC Compliant: No; Military Standard: Not; Lead Free: Lead Free; RoHS Compliant: Yes; ComponentLink1URL: https://datasheet.ciiva.com/2453/pyu-r-int-thick-7-2453524.pdf?src-supplier=Digikey; ComponentLink1Description: https://datasheet.ciiva.com/2453/pyu-r-int-thick-7-2453524.pdf?src-supplier=Digikey; ComponentLink2URL: https://datasheet.ciiva.com/2453/pyu-r-int-thick-7-2453525.pdf?src-supplier=Digikey; ComponentLink2Description: https://datasheet.ciiva.com/2453/pyu-r-int-thick-7-2453525.pdf?src-supplier=Digikey; ComponentLink3URL: https://datasheet.ciiva.com/2453/pyu-r-int-thick-7-2453523.pdf?src-supplier=Digikey; ComponentLink3Description: https://datasheet.ciiva.com/2453/pyu-r-int-thick-7-2453523.pdf?src-supplier=Digikey; ComponentLink4URL: https://datasheet.ciiva.com/5558/pyu-rc0402-51-rohs-l-6-r-5558023.pdf?src-supplier=Mouser; ComponentLink4Description: https://datasheet.ciiva.com/5558/pyu-rc0402-51-rohs-l-6-r-5558023.pdf?src-supplier=Mouser; ComponentLink5URL: https://datasheet.ciiva.com/7850/1018594-7850074.pdf?src-supplier=Element14; ComponentLink5Description: https://datasheet.ciiva.com/7850/1018594-7850074.pdf?src-supplier=Element14; ComponentLink6URL: https://datasheet.ciiva.com/7850/1018594-7850075.pdf?src-supplier=Element14; ComponentLink6Description: https://datasheet.ciiva.com/7850/1018594-7850075.pdf?src-supplier=Element14; ComponentLink7URL: https://datasheet.ciiva.com/15189/getdatasheetpartid-325392-15189501.pdf?src-supplier=Verical; ComponentLink7Description: https://datasheet.ciiva.com/15189/getdatasheetpartid-325392-15189501.pdf?src-supplier=Verical; Supplier 1: Future Electronics; Supplier Part Number 1: 1163037
footprint CS-1206
pins: 1, 2

## RN73R1JTTD4700B25
designator R?, comment 470Ohms
470 Ohms ±0.1% 0.1W, 1/10W Chip Resistor 0603 (1608 Metric) Automotive AEC-Q200, Moisture Resistant Thin Film; Supplier 1: Digikey; Supplier Part Number 1: 2019-RN73R1JTTD4700B25CT-ND
footprint WL-SMCW_0603_150060xx75000 (SMD Mono-color Chip LED, body 1.6x0.8mm)
pins: 1, 2

## SAMTEC-TST-110-01-X-DJ
designator J?
GateName_1: A; SymbolName_1: SAMTEC-TST-110-01-X-DA; DeviceName: J; DeviceSetName: SAMTEC-TST-110-01-X-D; LibraryName: SAMTEC-TST-110-01-X-D; Package: SAMTEC-TST-110-01-X-D
footprint SAMTEC-TST-110-01-X-D
pins: 1, 2, 3, 4, 5, 6, 7, 8, 9, 10, 11, 12, 13, 14, 15, 16, 17, 18, 19, 20

## SDR1307-5R6ML
designator L?
C: Copyright (C) 2015 Accelerated Designs. All rights reserved; Vendor: Bourns Electronics; Built_By: EMA_UL_Team; Manufacturer_Part_Number: SDR1307-5R6ML; Value: SDR1307-5R6ML
footprint IND_BOURNS_SDR13
pins: 1, 2
1 alternate drawing of the same symbol

## SN65HVD232DR
designator U?, comment CANbus tranceiver
EAR99 65HVD232 Tape & Reel (TR) CANbus interface receiver 100mV 17mA 72.603129mg 1Mbps; Manufacturer: Texas Instruments; Manufacturer Part Number: SN65HVD232DR; Min Supply Voltage: 3V; Max Supply Voltage: 3.6V; Number of Transceivers: 1; Simplex/Duplex: Half Duplex; Supplier: Digikey; RoHS: Yes; Category: Interface ICs; Stock: 18370; Pricing: 1=2.5, 10=2.246, 25=2.1184, 100=1.8049, 250=1.6948, 500=1.48294, 1000=1.22872 (USD); Case/Package: D; Pins: 8; Weight: 0.002561oz; Min Operating Temperature: -40°C; Max Operating Temperature: 85°C; Packaging: Tape and Reel; Data Rate: 1Mbps; Package Quantity: 2500; Number of Drivers: 1; Number of Receivers: 1; Series: -; Supply Current: 17mA; Number of Transmit Buffers: 1; Number of Receive Buffers: 1; Receiver Hysteresis: 100mV; Radiation Hardening: No; Lead Free: Lead Free; RoHS Compliant: Yes; Reach SVHC Compliant: No; ComponentLink1URL: https://datasheet.ciiva.com/1771/sn65hvd230-1771113.pdf?src-supplier=Digikey; ComponentLink1Description: https://datasheet.ciiva.com/1771/sn65hvd230-1771113.pdf?src-supplier=Digikey; ComponentLink2URL: https://datasheet.ciiva.com/1771/sn65hvd230-1771112.pdf?src-supplier=Digikey; ComponentLink2Description: https://datasheet.ciiva.com/1771/sn65hvd230-1771112.pdf?src-supplier=Digikey; ComponentLink3URL: https://datasheet.ciiva.com/1771/sn65hvd230-1771114.pdf?src-supplier=Digikey; ComponentLink3Description: https://datasheet.ciiva.com/1771/sn65hvd230-1771114.pdf?src-supplier=Digikey; ComponentLink4URL: https://datasheet.ciiva.com/15149/getdatasheetpartid-107534-15149958.pdf?src-supplier=Verical; ComponentLink4Description: https://datasheet.ciiva.com/15149/getdatasheetpartid-107534-15149958.pdf?src-supplier=Verical; Supplier Part Number: 296-26344-1-ND
footprint D0008A_M (SOIC, 8-Leads, Body 5x4mm, Pitch 1.27mm, IPC Low Density)
pins: 1 D (in) "Driver input", 2 GND (power) "Ground", 3 VCC (power) "Supply voltage", 4 R (out) "Receiver output", 5 NC "No connection", 6 CANL (io) "Low bus output", 7 CANH (io) "High bus outpu", 8 NC "No connection"

## SRR1260-220M
designator L?
22ÂµH Shielded Wirewound Inductor 4A 43mOhm Max Nonstandard; MF: Bourns; Digi-Key_Part_Number: SRR1260-220MCT-ND; Package: Nonstandard Bourns; SnapEDA_Link: https://www.snapeda.com/parts/SRR1260-220M/Bourns/view-part/290442/?ref=snap; Digi-Key_Purchase_URL: https://www.digikey.com/product-detail/en/bourns-inc/SRR1260-220M/SRR1260-220MCT-ND/2127411?utm_source=snapeda&utm_medium=aggregator&utm_campaign=symbol; MP: SRR1260-220M; Value: *
footprint *INDP125125X600N
pins: 1, 2

## STM32F446RET6
designator U?
MCU 32-bit ARM Cortex M4 RISC 512KB Flash 2.5V/3.3V Medical 64-Pin LQFP Frame; Manufacturer: STMicroelectronics; Frequency: 180MHz; Number of I/Os: 50; RAM Size: 128KB; Min Supply Voltage: 1.7V; Max Supply Voltage: 3.6V; Nominal Supply Current: 1.12uA; Number of A/D Converters: 3NUMBER; Number of Channels: 16NUMBER; Number of D/A Converters: 2NUMBER; Number of I2C Channels: 4NUMBER; Interface: I2C,SPI,USB,CAN,IrDA,SD,UART,USART,LIN,EBI/EMI; Oscillator Type: Internal; Peripherals: Brown-out Detect/Reset,POR,PWM,WDT,DMA,LVD; Supplier: Digikey; Supplier Part Number: 497-15376-ND; Manufacturer Part Number: STM32F446RET6; RoHS: Yes; Category: Microcontrollers; Stock: 9780; Pricing: 1=10.05, 10=9.077, 25=8.6544, 160=7.51463, 320=7.17688, 480=6.54363, 960=5.69929 (USD); Case/Package: LQFP; Pins: 64; Min Operating Temperature: -40°C; Max Operating Temperature: 85°C; Core Architecture: ARM; Memory Size: 512KB; Series: STM32 F4; Density: 512KB; Number of SPI Channels: 3NUMBER; Number of UART Channels: 2NUMBER; Packaging: Tray; Memory Format: FLASH; Number of ADC Channels: 16NUMBER; Number of PWM Channels: 4NUMBER; Number of USB Channels: 2NUMBER; Height: 1.6mm; Reach SVHC Compliant: No; Lead Free: Lead Free; RoHS Compliant: Yes; ComponentLink1URL: http://www.farnell.com/datasheets/2309063.pdf?src-supplier=Farnell; ComponentLink1Description: http://www.farnell.com/datasheets/2309063.pdf?src-supplier=Farnell; ComponentLink2URL: http://www.mouser.com/ds/2/389/stm32f446mc-956216.pdf?src-supplier=Mouser; ComponentLink2Description: http://www.mouser.com/ds/2/389/stm32f446mc-956216.pdf?src-supplier=Mouser; ComponentLink3URL: https://datasheet.octopart.com/STM32F446RET6-STMicroelectronics-datasheet-58295083.pdf?src-supplier=Future+Electronics; ComponentLink3Description: https://datasheet.octopart.com/STM32F446RET6-STMicroelectronics-datasheet-58295083.pdf?src-supplier=Future+Electronics; ComponentLink4URL: http://www.st.com/content/ccc/resource/technical/document/datasheet/65/cb/75/50/53/d6/48/24/DM00141306.pdf/files/DM00141306.pdf/jcr:content/translations/en.DM00141306.pdf?src-supplier=Digikey; ComponentLink4Description: http://www.st.com/content/ccc/resource/technical/document/datasheet/65/cb/75/50/53/d6/48/24/DM00141306.pdf/files/DM00141306.pdf/jcr:content/translations/en.DM00141306.pdf?src-supplier=Digikey; ComponentLink5URL: https://datasheet.octopart.com/STM32F446RET6-STMicroelectronics-datasheet-41797127.pdf?src-supplier=Element14; ComponentLink5Description: https://datasheet.octopart.com/STM32F446RET6-STMicroelectronics-datasheet-41797127.pdf?src-supplier=Element14; ComponentLink6URL: http://www.farnell.com/datasheets/2309063.pdf?src-supplier=Newark; ComponentLink6Description: http://www.farnell.com/datasheets/2309063.pdf?src-supplier=Newark; ComponentLink7URL: http://www.farnell.com/datasheets/2309063.pdf?src-supplier=Element14; ComponentLink7Description: http://www.farnell.com/datasheets/2309063.pdf?src-supplier=Element14; ComponentLink8URL: https://datasheet.octopart.com/STM32F446RET6-STMicroelectronics-datasheet-83961502.pdf?src-supplier=SHENGYU+ELECTRONICS; ComponentLink8Description: https://datasheet.octopart.com/STM32F446RET6-STMicroelectronics-datasheet-83961502.pdf?src-supplier=SHENGYU+ELECTRONICS
footprint FP-LQFP64-5W-IPC_A
footprint FP-LQFP64-5W-IPC_B
footprint FP-LQFP64-5W-IPC_C
footprint FP-LQFP64-5W-MFG
part A pins: 2 PC13 (io), 3 PC14-OSC32 IN (io), 4 PC15-OSC32 OUT (io), 5 PH0-OSC IN (io), 6 PH1-OSC OUT (io), 8 PC0 (io), 9 PC1 (io), 10 PC2 (io), 11 PC3 (io), 14 PA0 (io), 15 PA1 (io), 16 PA2 (io), 17 PA3 (io), 20 PA4 (io), 21 PA5 (io), 22 PA6 (io), 23 PA7 (io), 24 PC4 (io), 25 PC5 (io), 26 PB0 (io), 27 PB1 (io), 28 PB2 (io), 29 PB10 (io), 33 PB12 (io), 34 PB13 (io), 35 PB14 (io), 36 PB15 (io), 37 PC6 (io), 38 PC7 (io), 39 PC8 (io), 40 PC9 (io), 41 PA8 (io), 42 PA9 (io), 43 PA10 (io), 44 PA11 (io), 45 PA12 (io), 46 PA13 (io), 49 PA14 (io), 50 PA15 (io), 51 PC10 (io), 52 PC11 (io), 53 PC12 (io), 54 PD2 (io), 55 PB3 (io), 56 PB4 (io), 57 PB5 (io), 58 PB6 (io), 59 PB7 (io), 61 PB8 (io), 62 PB9 (io)
part B pins: 1 VBAT (power), 7 ~{RST} (in), 12 VSSA/VREF- (power), 13 VDDA/VREF+ (power), 18 VSS (power), 19 VDD (power), 30 VCAP 1 (power), 31 VSS (power), 32 VDD (power), 47 VSS (power), 48 VDD (power), 60 BOOT0 (in), 63 VSS (power), 64 VDD (power)

## TPS22810-Q1
designator U?, comment TPS22810
footprint SOT23-6-pin (SOT23, 6-Leads, Body 2.90x2.80mm, Pitch 0.95mm, IPC Medium Density)
pins: 1 VIN, 2 GND, 3 EN, 4 CT, 5 QOD, 6 VOUT

## TPS56339DDCR
designator U?
BSR-MCP; MF: Texas Instruments; SnapEDA_Link: https://www.snapeda.com/parts/TPS56339DDCR/Texas%20Instruments/view-part/4178121/?ref=snap; Package: SOT-23-6 Texas Instruments; Availability: Unavailable; Price: None; MP: TPS56339DDCR; Value: *
footprint *SOT95P280X110-6N
pins: 1 GND (power), 2 SW (out), 3 VIN (in), 4 FB (in), 5 EN (in), 6 BOOT (out)

## TS321ILT
designator X?, comment amp-op
IC OPAMP GP 800KHZ SOT23-5; Manufacturer: STMicroelectronics; Manufacturer Part Number: TS321ILT; Slew Rate: 0.4V/µs; Min Supply Voltage: 3V; Max Supply Voltage: 30V; Min Dual Supply Voltage: 1.5V; Max Dual Supply Voltage: 15V; Voltage Gain: 100dB; Dual Supply Voltage: 9V; Number of Channels: 1; Common Mode Rejection Ratio: 65dB; Output Current: 40mA; Min Input Voltage: 0V; Input Bias Current: 150nA; Input Offset Voltage (Vos): 4mV; Operating Supply Current: 600uA; Max Supply Current: 800uA; Power Supply Rejection Ratio (PSRR): 110dB; Amplifier Type: GENERAL PURPOSE; Supplier: Digikey; Supplier Part Number: 497-4061-1-ND; RoHS: Yes; Category: Amplifiers - Op Amps, Buffer, Instrumentation; Stock: 65051; Pricing: 1=0.52, 10=0.447, 25=0.4176, 100=0.334, 250=0.31012, 500=0.26242, 1000=0.20278 (USD); Mounting Technology: Surface Mount; Case/Package: SOT-23; Pins: 5; Min Operating Temperature: -40°C; Max Operating Temperature: 125°C; Package Quantity: 3000; Packaging: Tape and Reel; Operating Supply Voltage: 15V; Unity Gain Bandwidth Product: 800kHz; Number of Circuits: 1; Gain Bandwidth Product: 800kHz; Output Current per Channel: 40mA; Bandwidth: 800kHz; Number of Amplifiers: 1; Number of Elements: 1; Series: -; Supply Current: 800uA; Technology: BIPOLAR; Slew Rate-Nom: 0.4V/µs; Input Offset Voltage-Max: 4mV; Moisture Sensitivity Level: 1; Length: 3mm; Width: 1.75mm; Height: 1.3mm; Radiation Hardening: No; Reach SVHC Compliant: No; Lead Free: Lead Free; RoHS Compliant: Yes; ComponentLink1URL: https://datasheet.ciiva.com/1795/cd00001647-1795918.pdf?src-supplier=Digikey; ComponentLink1Description: https://datasheet.ciiva.com/1795/cd00001647-1795918.pdf?src-supplier=Digikey
footprint SOT23-5_STM
footprint SOT23-5_STM-L
footprint SOT23-5_STM-M
pins: 1 OUT (out), 2 VCC- (power), 3 NON-INV.IN (in), 4 INV.IN (in), 5 VCC+ (power)